# Altium footprint library PCB_Library.PcbLib: 42 footprints (part 1 of 3)
Each footprint in its own frame and in the unit in brackets; x right, y up, seen from the top. Pads: shape width x height; smd on the part's side, far side on the other; paste and mask are expansions set on the pad; w line width, h text height; cw(c..) or ccw(c..) is an arc to the next point about the centre after c.
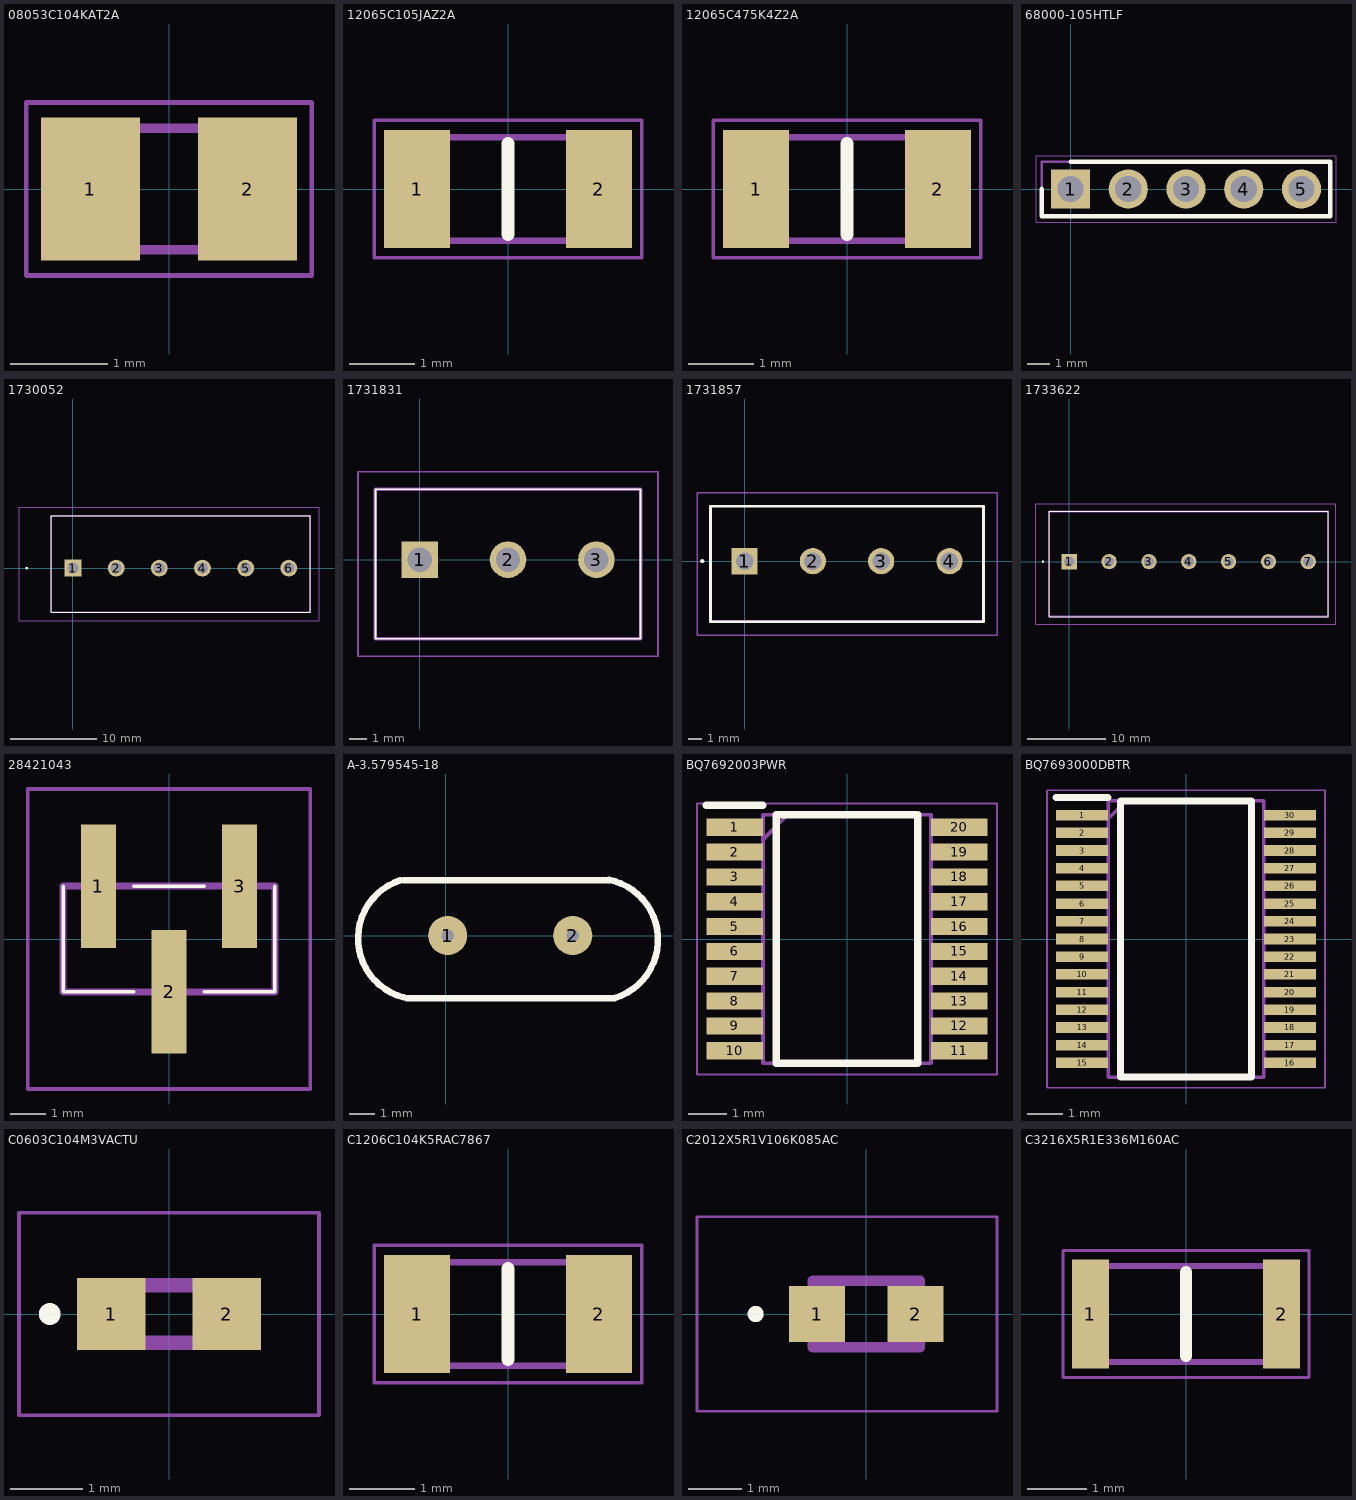
[diagram p0: the footprints below, top view; thin cyan lines are the x and y axes]

## 08053C104KAT2A [mm]
pads (2):
  rect 1.02x1.47 smd: 1(-0.81,0) 2(0.81,0)
Mechanical 13:
  lines w0.1: -1.005,-0.625 -1.005,0.625 1.005,0.625 1.005,-0.625 -1.005,-0.625
Mechanical 15:
  lines w0.05: -1.47,-0.89 -1.47,0.89 1.47,0.89 1.47,-0.89 -1.47,-0.89
3D body "08053C104KAT2A.stp": height 0.94, standoff 0, extent -1.005,-0.625 1.005,0.625

## 12065C105JAZ2A [mm]
pads (2):
  rect 1.02x1.82 smd: 1(-1.4,0) 2(1.4,0)
Top Overlay:
  lines w0.2: 0,-0.7 0,0.7
Mechanical 13:
  lines w0.1: -1.6,-0.8 1.6,-0.8 1.6,0.8 -1.6,0.8 -1.6,-0.8
Mechanical 15:
  lines w0.05: -2.06,-1.06 2.06,-1.06 2.06,1.06 -2.06,1.06 -2.06,-1.06
3D body "12065C105JAZ2A.stp": height 1.78, standoff 0, extent -1.6,-0.8 1.6,0.8

## 12065C475K4Z2A [mm]
pads (2):
  rect 1.02x1.82 smd: 1(-1.4,0) 2(1.4,0)
Top Overlay:
  lines w0.2: 0,-0.7 0,0.7
Mechanical 13:
  lines w0.1: -1.6,-0.8 -1.6,0.8 1.6,0.8 1.6,-0.8 -1.6,-0.8
Mechanical 15:
  lines w0.05: -2.06,-1.06 -2.06,1.06 2.06,1.06 2.06,-1.06 -2.06,-1.06
3D body "12065C475K4Z2A.stp": height 1.78, standoff 0, extent -1.6,-0.8 1.6,0.8

## 68000-105HTLF [mm]
pads (5):
  rect 1.725x1.725 hole 1.15: 1(0,0)
  round 1.725 hole 1.15: 2(2.54,0) 3(5.08,0) 4(7.62,0) 5(10.16,0)
Top Overlay:
  lines w0.2: -1.27,0 -1.27,-1.205 11.43,-1.205 11.43,1.205 0,1.205
Mechanical 13:
  lines w0.1: -1.27,-1.205 -1.27,1.205 11.43,1.205 11.43,-1.205 -1.27,-1.205
Mechanical 15:
  lines w0.05: -1.52,-1.455 -1.52,1.455 11.68,1.455 11.68,-1.455 -1.52,-1.455
3D body "68000-105HTLF.stp": height 8.58, standoff -2.66, extent -1.27,-1.205 11.43,1.205

## 1730052 [mm]
pads (6):
  rect 1.95x1.95 hole 1.3: 1(0,0)
  round 1.95 hole 1.3: 2(5,0) 3(10,0) 4(15,0) 5(20,0) 6(25,0)
Top Overlay:
  circle w0.2: c-5.35,0 r0.05
  lines w0.1: -2.5,-5.1 -2.5,6.05 27.5,6.05 27.5,-5.1 -2.5,-5.1
Mechanical 13:
  lines w0.2: -2.5,-5.1 -2.5,6.05 27.5,6.05 27.5,-5.1 -2.5,-5.1
Mechanical 15:
  lines w0.05: -6.25,-6.1 -6.25,7.05 28.5,7.05 28.5,-6.1 -6.25,-6.1
3D body "1730052.stp": height 14.38, standoff -2.92, extent -2.461,-6.546 28.28,4.604

## 1731831 [mm]
pads (3):
  rect 2.1x2.1 hole 1.4: 1(0,0)
  round 2.1 hole 1.4: 2(5.08,0) 3(10.16,0)
Top Overlay:
  lines w0.1: -2.54,-4.55 -2.54,4.05 12.7,4.05 12.7,-4.55 -2.54,-4.55
Mechanical 13:
  lines w0.2: -2.54,-4.55 -2.54,4.05 12.7,4.05 12.7,-4.55 -2.54,-4.55
Mechanical 15:
  lines w0.1: -3.54,-5.55 -3.54,5.05 13.7,5.05 13.7,-5.55 -3.54,-5.55
3D body "1731831.stp": height 19.63, standoff -2.97, extent -2.46,-4 13.35,4.6

## 1731857 [mm]
pads (4):
  rect 1.95x1.95 hole 1.3: 1(0,0)
  round 1.95 hole 1.3: 2(5.08,0) 3(10.16,0) 4(15.24,0)
Top Overlay:
  lines w0.2: -3.2,0 ccw(c-3.15,0) -3.1,0 ; -3.2,0 cw(c-3.15,0) -3.1,0 ; -3.2,0 ccw(c-3.15,0) -3.1,0 ; -2.54,-4.5 -2.54,4.08 17.78,4.08 17.78,-4.5 -2.54,-4.5
Mechanical 13:
  lines w0.1: -2.54,-4.45 -2.54,4.08 17.78,4.08 17.78,-4.45 -2.54,-4.45
Mechanical 15:
  lines w0.1: -3.54,-5.5 -3.54,5.08 18.78,5.08 18.78,-5.5 -3.54,-5.5
3D body "1731857.stp": height 19.45, standoff -3.15, extent -2.54,-4.11 18.35,4.49

## 1733622 [mm]
pads (7):
  rect 1.95x1.95 hole 1.3: 1(0,0)
  round 1.95 hole 1.3: 2(5.08,0) 3(10.16,0) 4(15.24,0) 5(20.32,0) 6(25.4,0) 7(30.48,0)
Top Overlay:
  circle w0.2: c-3.35,0 r0.05
  lines w0.1: -2.54,-7 -2.54,6.4 33.02,6.4 33.02,-7 -2.54,-7
Mechanical 13:
  lines w0.2: -2.54,-7 -2.54,6.4 33.02,6.4 33.02,-7 -2.54,-7
Mechanical 15:
  lines w0.05: -4.25,-8 -4.25,7.4 34.02,7.4 34.02,-8 -4.25,-8
3D body "1733622.stp": height 15.76, standoff -3.04, extent -3.201,-6.418 33.1,6.982

## 28421043 [mm]
pads (3):
  rect 1x3.5 smd: 1(-2,1.5) 2(0,-1.5) 3(2,1.5)
Top Overlay:
  lines w0.1: -3,1.5 -3,-1.5 -1,-1.5 ; -1,1.5 1,1.5 ; 1,-1.5 3,-1.5 3,1.5
Mechanical 13:
  lines w0.2: -3,-1.5 3,-1.5 3,1.5 -3,1.5 -3,-1.5
Mechanical 15:
  lines w0.1: -4,-4.25 4,-4.25 4,4.25 -4,4.25 -4,-4.25
3D body "2842104-3.stp": height 6.1, standoff 0, extent -3,-2.25 3,2.25

## A-3.579545-18 [mil]
pads (2):
  round 60 hole 19: 1(2.87,0) 2(195,0)
Top Overlay:
  lines w10: -70,85 ccw(c-41.2,-4.27) -65,-95 ; -65,85 251.92,85 ; -60,-96.38 259.74,-96.38 ; 250.16,85.81 cw(c232.23,-6.26) 260.25,-95.78
3D body "CRYSTAL_RAMI_HC49-U_RAM.step": height 530.98, standoff -150.98, extent -126.65,-100 326.65,101.34

## BQ7692003PWR [mm]
pads (20):
  rect 1.475x0.45 smd: 1(-2.938,2.925) 2(-2.938,2.275) 3(-2.938,1.625) 4(-2.938,0.975) 5(-2.938,0.325) 6(-2.938,-0.325) 7(-2.938,-0.975) 8(-2.938,-1.625) 9(-2.938,-2.275) 10(-2.938,-2.925) 11(2.938,-2.925) 12(2.938,-2.275) 13(2.938,-1.625) 14(2.938,-0.975) 15(2.938,-0.325) 16(2.938,0.325) 17(2.938,0.975) 18(2.938,1.625) 19(2.938,2.275) 20(2.938,2.925)
Top Overlay:
  lines w0.2: -3.675,3.5 -2.2,3.5 ; -1.85,-3.25 -1.85,3.25 1.85,3.25 1.85,-3.25 -1.85,-3.25
Mechanical 13:
  lines w0.1: -2.2,2.6 -1.55,3.25 ; -2.2,-3.25 -2.2,3.25 2.2,3.25 2.2,-3.25 -2.2,-3.25
Mechanical 15:
  lines w0.05: -3.925,-3.55 -3.925,3.55 3.925,3.55 3.925,-3.55 -3.925,-3.55
3D body "BQ7692003PWR.stp": height 1.13, standoff 0, extent -3.2,-3.25 3.2,3.25

## BQ7693000DBTR [mm]
pads (30):
  rect 1.475x0.3 smd: 1(-2.938,3.5) 2(-2.938,3) 3(-2.938,2.5) 4(-2.938,2) 5(-2.938,1.5) 6(-2.938,1) 7(-2.938,0.5) 8(-2.938,0) 9(-2.938,-0.5) 10(-2.938,-1) 11(-2.938,-1.5) 12(-2.938,-2) 13(-2.938,-2.5) 14(-2.938,-3) 15(-2.938,-3.5) 16(2.938,-3.5) 17(2.938,-3) 18(2.938,-2.5) 19(2.938,-2) 20(2.938,-1.5) 21(2.938,-1) 22(2.938,-0.5) 23(2.938,0) 24(2.938,0.5) 25(2.938,1) 26(2.938,1.5) 27(2.938,2) 28(2.938,2.5) 29(2.938,3) 30(2.938,3.5)
Top Overlay:
  lines w0.2: -3.675,4 -2.2,4 ; -1.85,-3.9 1.85,-3.9 1.85,3.9 -1.85,3.9 -1.85,-3.9
Mechanical 13:
  lines w0.1: -2.2,3.4 -1.7,3.9 ; -2.2,-3.9 2.2,-3.9 2.2,3.9 -2.2,3.9 -2.2,-3.9
Mechanical 15:
  lines w0.05: -3.925,-4.2 3.925,-4.2 3.925,4.2 -3.925,4.2 -3.925,-4.2
3D body "BQ7693000DBTR.stp": height 1.2, standoff 0, extent -3.2,-3.9 3.2,3.9

## C0603C104M3VACTU [mm]
pads (2):
  rect 0.95x1 smd: 1(-0.8,0) 2(0.8,0)
Top Overlay:
  circle w0.2: c-1.65,0 r0.05
Mechanical 13:
  lines w0.2: -0.8,-0.4 0.8,-0.4 0.8,0.4 -0.8,0.4 -0.8,-0.4
Mechanical 15:
  lines w0.05: -2.075,-1.4 2.075,-1.4 2.075,1.4 -2.075,1.4 -2.075,-1.4
3D body "C0603C104M3VACTU.stp": height 0.9, standoff 0, extent -0.87,-0.48 0.88,0.47

## C1206C104K5RAC7867 [mm]
pads (2):
  rect 1.02x1.82 smd: 1(-1.4,0) 2(1.4,0)
Top Overlay:
  lines w0.2: 0,-0.7 0,0.7
Mechanical 13:
  lines w0.1: -1.6,-0.8 -1.6,0.8 1.6,0.8 1.6,-0.8 -1.6,-0.8
Mechanical 15:
  lines w0.05: -2.06,-1.06 -2.06,1.06 2.06,1.06 2.06,-1.06 -2.06,-1.06
3D body "C1206C104K5RAC7867.stp": height 0.88, standoff 0, extent -1.7,-0.9 1.7,0.9

## C2012X5R1V106K085AC [mm]
pads (2):
  rect 1.05x1.05 smd: 1(-0.925,0) 2(0.925,0)
Top Overlay:
  circle w0.2: c-2.075,0 r0.05
Mechanical 13:
  lines w0.2: -1,-0.625 -1,0.625 1,0.625 1,-0.625 -1,-0.625
Mechanical 15:
  lines w0.05: -3.175,-1.825 -3.175,1.825 2.45,1.825 2.45,-1.825 -3.175,-1.825
3D body "C2012X5R1V106K085AC.stp": height 1.25, standoff 0, extent -0.96,-0.8 1.04,0.8

## C3216X5R1E336M160AC [mm]
pads (2):
  rect 0.62x1.82 smd: 1(-1.6,0) 2(1.6,0)
Top Overlay:
  lines w0.2: 0,-0.7 0,0.7
Mechanical 13:
  lines w0.1: -1.6,-0.8 1.6,-0.8 1.6,0.8 -1.6,0.8 -1.6,-0.8
Mechanical 15:
  lines w0.05: -2.06,-1.06 2.06,-1.06 2.06,1.06 -2.06,1.06 -2.06,-1.06
3D body "C3216X5R1E336M160AC.stp": height 1.6, standoff 0, extent -1.65,-0.8 1.55,0.8